# Altium schematic symbol library Murata.SchLib: 6 symbols
Pins are listed as number, name and electrical type; pins without a type are passive.

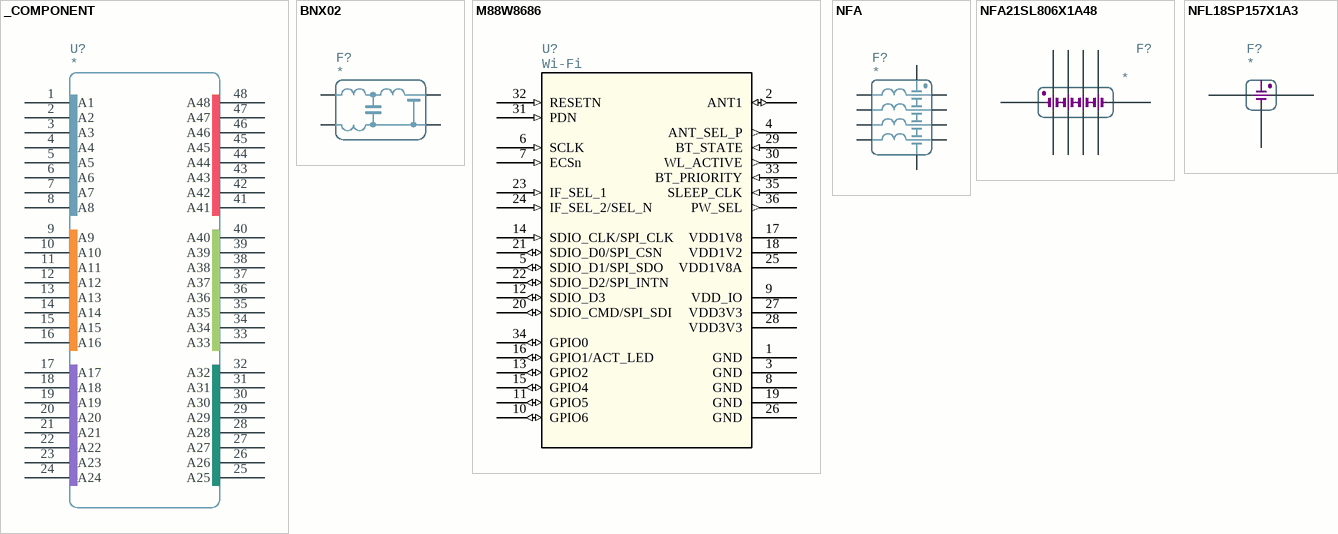
[diagram p0: symbols _COMPONENT to NFL18SP157X1A3]

## _COMPONENT
designator U?
pins: 1 A1, 2 A2, 3 A3, 4 A4, 5 A5, 6 A6, 7 A7, 8 A8, 9 A9, 10 A10, 11 A11, 12 A12, 13 A13, 14 A14, 15 A15, 16 A16, 17 A17, 18 A18, 19 A19, 20 A20, 21 A21, 22 A22, 23 A23, 24 A24, 25 A25, 26 A26, 27 A27, 28 A28, 29 A29, 30 A30, 31 A31, 32 A32, 33 A33, 34 A34, 35 A35, 36 A36, 37 A37, 38 A38, 39 A39, 40 A40, 41 A41, 42 A42, 43 A43, 44 A44, 45 A45, 46 A46, 47 A47, 48 A48

## BNX02
designator F?
pins: 1, 2, 3, 4

## M88W8686
designator U?, comment Wi-Fi
Wi-Fi 2.4GHz 802.11g Module; PartNumber: LBWA18HEPZ; Vendor: muRata; PinCountSMD: 36; PinCountHole: 0; Designer: shyul; Value: Wi-Fi; Version: 1.0; VersionDate: 05-08-2011; Publisher: Cowin; PCBMarker: Wi-Fi; SerialNumber: 0
footprint M88W8686
pins: 1 GND (power), 2 ANT1 (io), 3 GND (power), 4 ANT_SEL_P (out), 5 SDIO_D1/SPI_SDO (io), 6 SCLK (in), 7 ECSn (in), 8 GND (power), 9 VDD_IO (power), 10 GPIO6 (io), 11 GPIO5 (io), 12 SDIO_D3 (io), 13 GPIO2 (io), 14 SDIO_CLK/SPI_CLK (in), 15 GPIO4 (io), 16 GPIO1/ACT_LED (io), 17 VDD1V8 (power), 18 VDD1V2 (power), 19 GND (power), 20 SDIO_CMD/SPI_SDI (io), 21 SDIO_D0/SPI_CSN (io), 22 SDIO_D2/SPI_INTN (io), 23 IF_SEL_1 (in), 24 IF_SEL_2/SEL_N (in), 25 VDD1V8A (power), 26 GND (power), 27 VDD3V3 (power), 28 VDD3V3 (power), 29 BT_STATE (in), 30 WL_ACTIVE (out), 31 PDN (in), 32 RESETN (in), 33 BT_PRIORITY (in), 34 GPIO0 (io), 35 SLEEP_CLK (in), 36 PW_SEL (out)

## NFA
designator F?
Symbol Date: 04-27-2011
pins: 1 GND, 2 GND, 3, 4, 5, 6, 7, 8, 9, 10
2 alternate drawings of the same symbol

## NFA21SL806X1A48
designator F?
FILTER,SM,EMI,ARRAY X4,80MHZ,10V,0805,H=.037IN
footprint MURATA-NFA21SL (NFA21SL Noise Filter)
pins: 1 GND, 2 GND, 3, 4, 5, 6, 7, 8, 9, 10

## NFL18SP157X1A3
designator F?
FILTER,SM,EMI,150MHZ,10V,100MA,0603,H=.025IN
pins: 1, 2 GND, 3